# Altium footprint library rcl.PcbLib: 13 footprints
Each footprint in its own frame and in the unit in brackets; x right, y up, seen from the top. Pads: shape width x height; smd on the part's side, far side on the other; paste and mask are expansions set on the pad; w line width, h text height; cw(c..) or ccw(c..) is an arc to the next point about the centre after c.
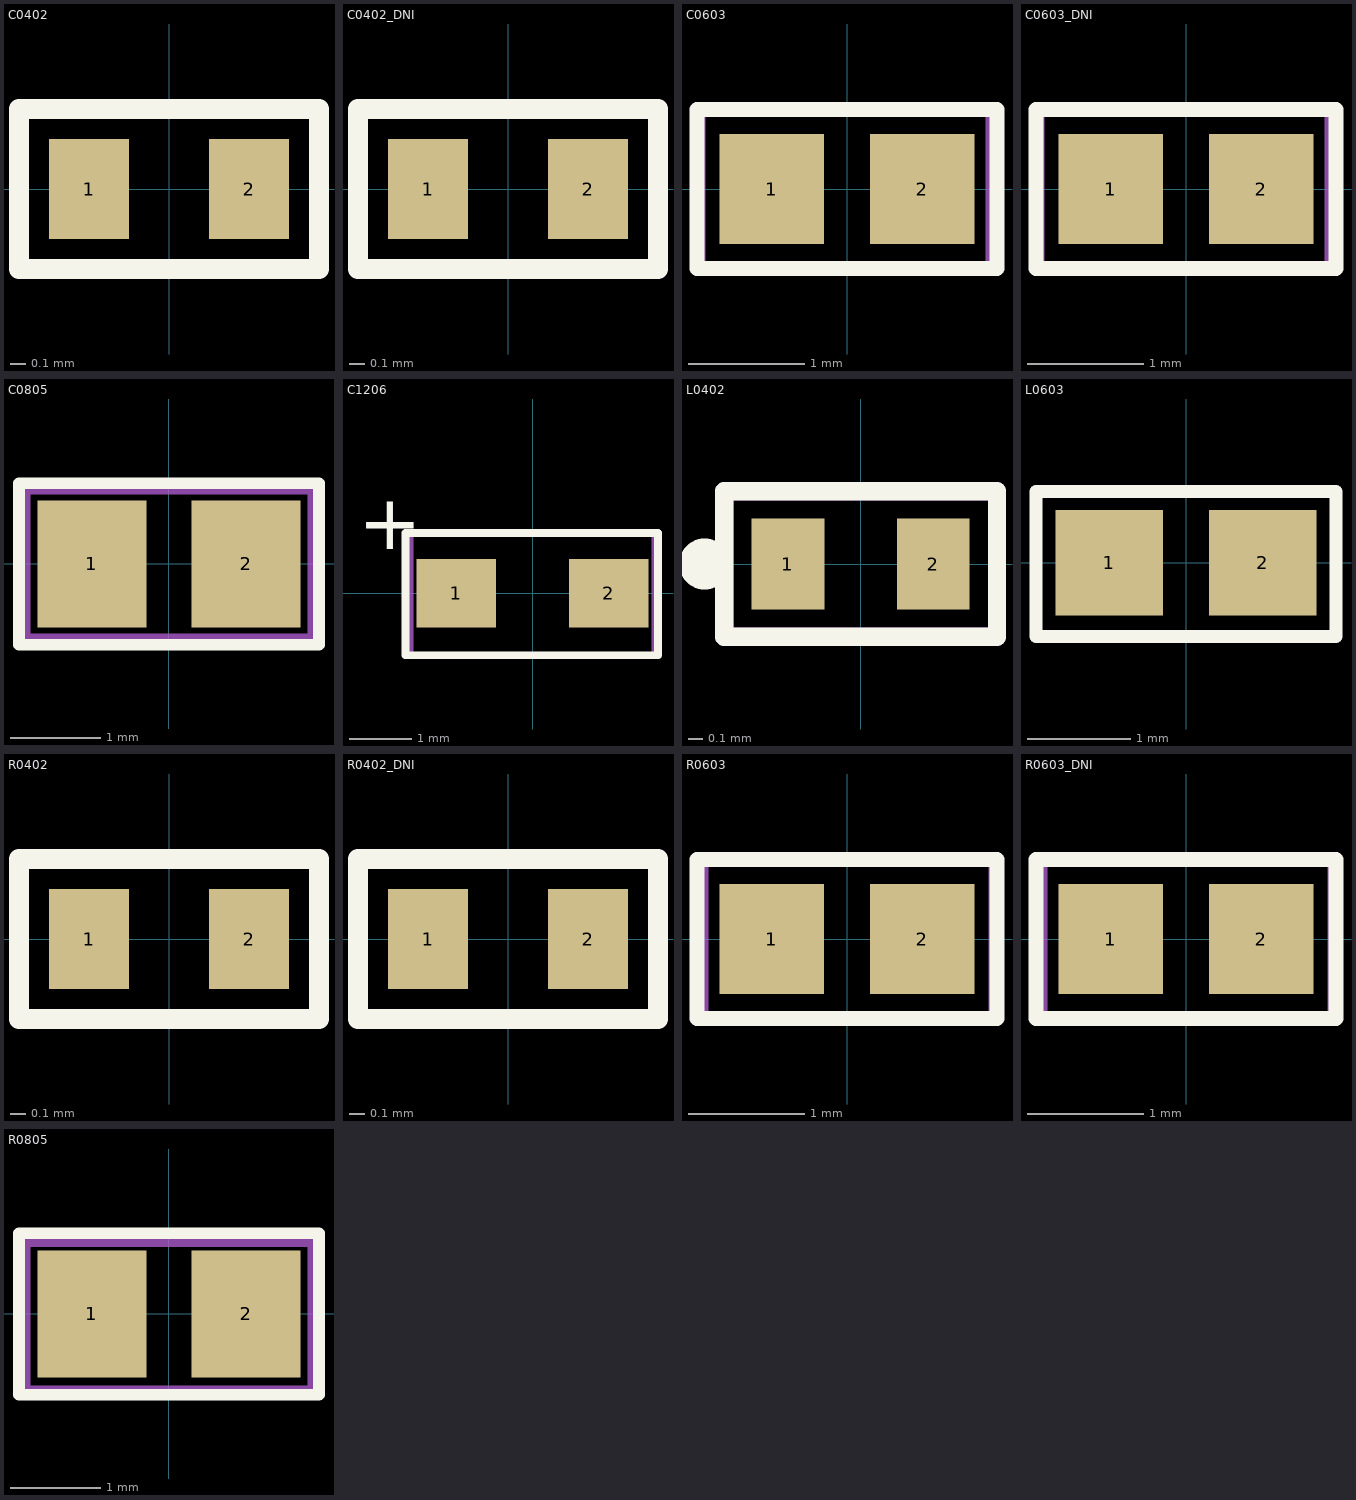
[diagram p0: the footprints below, top view; thin cyan lines are the x and y axes]

## C0402 [mil]
pads (2):
  rect 20x25 smd mask+2: 1(-20,0) 2(20,0)
Top Overlay:
  lines w5: -37.5,-20 37.5,-20 37.5,20 -37.51,20 -37.5,-20
Top Assembly:
  lines w5: -37.5,-20 -37.5,20 37.5,20 37.5,-20 -37.5,-20
  text ".Designator" at -28.52,-12.04 h25
3D body "User Library-0402(1005M) Cap.step": height 20.1, standoff 0, extent -19.99,-9.99 20.01,10.01

## C0402_DNI [mil]
pads (2):
  rect 20x25 smd mask+2: 1(-20,0) 2(20,0)
Top Overlay:
  lines w5: -37.5,-20 -37.5,20 37.5,20 37.5,-20 -37.5,-20
Top Assembly:
  lines w5: -37.5,-20 37.5,-20 37.5,20 -37.51,20 -37.5,-20
  text ".Designator" at -28.52,-12.04 h25

## C0603 [mm] "non polarized"
height 0.87
pads (2):
  rect 0.9x0.95 smd: 1(-0.65,0) 2(0.65,0)
Top Overlay:
  lines w0.127: -1.295,-0.686 1.295,-0.686 1.295,0.686 -1.295,0.686 -1.295,-0.686
Top Assembly:
  lines w0.1: -1.27,-0.686 -1.27,0.686 1.245,0.686 1.245,-0.686 -1.27,-0.686
  text ".Designator" at -0.953,-0.331 h0.64
3D body "User Library-0603(1608M) Cap.step": height 0.79, standoff 0, extent -1,-0.393 1,0.394

## C0603_DNI [mm] "non polarized"
height 0.87
pads (2):
  rect 0.9x0.95 smd: 1(-0.65,0) 2(0.65,0)
Top Overlay:
  lines w0.127: -1.295,-0.686 -1.295,0.686 1.295,0.686 1.295,-0.686 -1.295,-0.686
Top Assembly:
  lines w0.1: -1.27,-0.686 1.245,-0.686 1.245,0.686 -1.27,0.686 -1.27,-0.686
  text ".Designator" at -1.004,-0.331 h0.64

## C0805 [mm] "non polarized"
height 1.35
pads (2):
  rect 1.2x1.4 smd: 1(-0.85,0) 2(0.85,0)
Top Overlay:
  lines w0.127: -1.651,-0.889 1.651,-0.889 1.651,0.889 -1.651,0.889 -1.651,-0.889
Top Assembly:
  lines w0.1: -1.575,-0.813 -1.575,0.813 1.575,0.813 1.575,-0.813 -1.575,-0.813
  text ".Designator" at -1.156,-0.357 h0.64
3D body: height 1.35, standoff 0, extent -0.6,-0.675 0.6,0.675
3D body: height 1.35, standoff 0, extent 0.6,-0.675 1.05,0.675
3D body: height 1.35, standoff 0, extent -1.05,-0.675 -0.6,0.675

## C1206 [mil] "polorized"
pads (2):
  rect 50x43 smd paste+0 mask+0: 1(-48,0) 2(48,0)
Top Overlay:
  lines w5: -80,-39 79,-39 79,38 -80,38 -80,-39
  text "+" at -110,16 h60
Top Assembly:
  lines w3.94: -77,38 -77,-39 77,-39 77,38
  lines w4: -77,-39 -77,38 77,38 77,-39 -77,-39
  lines w5: -77,38 77,38
  text ".Designator" at -58.52,-14.04 h25
3D body "F93-A.step": height 72.99, standoff 0, extent -68.01,-35.51 66.01,35.51

## L0402 [mil]
pads (2):
  rect 20x25 smd mask+2: 1(-20,0) 2(20,0)
Top Overlay:
  circle w10: c-43,0 r2
  lines w5: -37.5,-20 -37.5,20 37.5,20 37.5,-20 -37.5,-20
Top Assembly:
  lines w5: -37.5,-20 37.5,-20 37.5,20 -37.51,20 -37.5,-20
  text ".Designator" at -30.52,-12.04 h25
3D body "User Library-0402(1005M) Res.step": height 20.1, standoff 0, extent -20,-10 20,10

## L0603 [mm]
pads (2):
  rect 1.04x1.02 smd: 1(-0.74,0) 2(0.74,0)
Top Overlay:
  lines w0.127: -1.448,-0.711 -1.448,0.686 1.448,0.686 1.448,-0.711 -1.448,-0.711
Top Assembly:
  lines w0.1: -1.448,-0.711 -1.448,0.686 1.448,0.686 1.448,-0.711 -1.448,-0.711
  text ".Designator" at -1.232,-0.433 h0.64
3D body "User Library-0603(1608M) Res.step": height 0.79, standoff 0, extent -1,-0.394 1,0.394

## R0402 [mil]
pads (2):
  rect 20x25 smd mask+2: 1(-20,0) 2(20,0)
Top Overlay:
  lines w5: -37.5,-20 -37.5,20 37.5,20 37.5,-20 -37.5,-20
Top Assembly:
  lines w5: -37.5,-20 37.5,-20 37.5,20 -37.51,20 -37.5,-20
  text ".Designator" at -29.52,-12.04 h25
3D body "User Library-RES_1005-0402.step": height 16.14, standoff 0, extent -22.63,-10.82 22.64,10.83

## R0402_DNI [mil]
pads (2):
  rect 20x25 smd mask+2: 1(-20,0) 2(20,0)
Top Overlay:
  lines w5: -37.5,-20 37.5,-20 37.5,20 -37.51,20 -37.5,-20
Top Assembly:
  lines w5: -37.5,-20 -37.5,20 37.5,20 37.5,-20 -37.5,-20
  text ".Designator" at -30.52,-12.04 h25

## R0603 [mm] "non polarized"
height 0.87
pads (2):
  rect 0.9x0.95 smd: 1(-0.65,0) 2(0.65,0)
Top Overlay:
  lines w0.127: -1.295,-0.686 1.295,-0.686 1.295,0.686 -1.295,0.686 -1.295,-0.686
Top Assembly:
  lines w0.1: -1.245,-0.686 1.27,-0.686 1.27,0.686 -1.245,0.686 -1.245,-0.686
  text ".Designator" at -1.004,-0.331 h0.64
3D body "User Library-RES_1609-0603.step": height 0.56, standoff 0, extent -0.85,-0.4 0.85,0.4

## R0603_DNI [mm] "non polarized"
height 0.87
pads (2):
  rect 0.9x0.95 smd: 1(-0.65,0) 2(0.65,0)
Top Overlay:
  lines w0.127: -1.295,-0.686 -1.295,0.686 1.295,0.686 1.295,-0.686 -1.295,-0.686
Top Assembly:
  lines w0.1: -1.245,-0.686 -1.245,0.686 1.27,0.686 1.27,-0.686 -1.245,-0.686
  text ".Designator" at -1.029,-0.433 h0.64

## R0805 [mm] "non polarized"
height 1.35
pads (2):
  rect 1.2x1.4 smd: 1(-0.85,0) 2(0.85,0)
Top Overlay:
  lines w0.127: -1.651,-0.889 -1.651,0.889 1.651,0.889 1.651,-0.889 -1.651,-0.889
Top Assembly:
  lines w0.1: -1.575,-0.838 1.575,-0.838 1.575,0.787 -1.575,0.787 -1.575,-0.838
  text ".Designator" at -1.182,-0.407 h0.64
3D body "User Library-0805(2012M) Cap.step": height 0.79, standoff 0, extent -1.254,-0.622 1.254,0.622